# Altium schematic symbol library Hardware.SchLib: 40 symbols
Pins are listed as number, name and electrical type; pins without a type are passive.

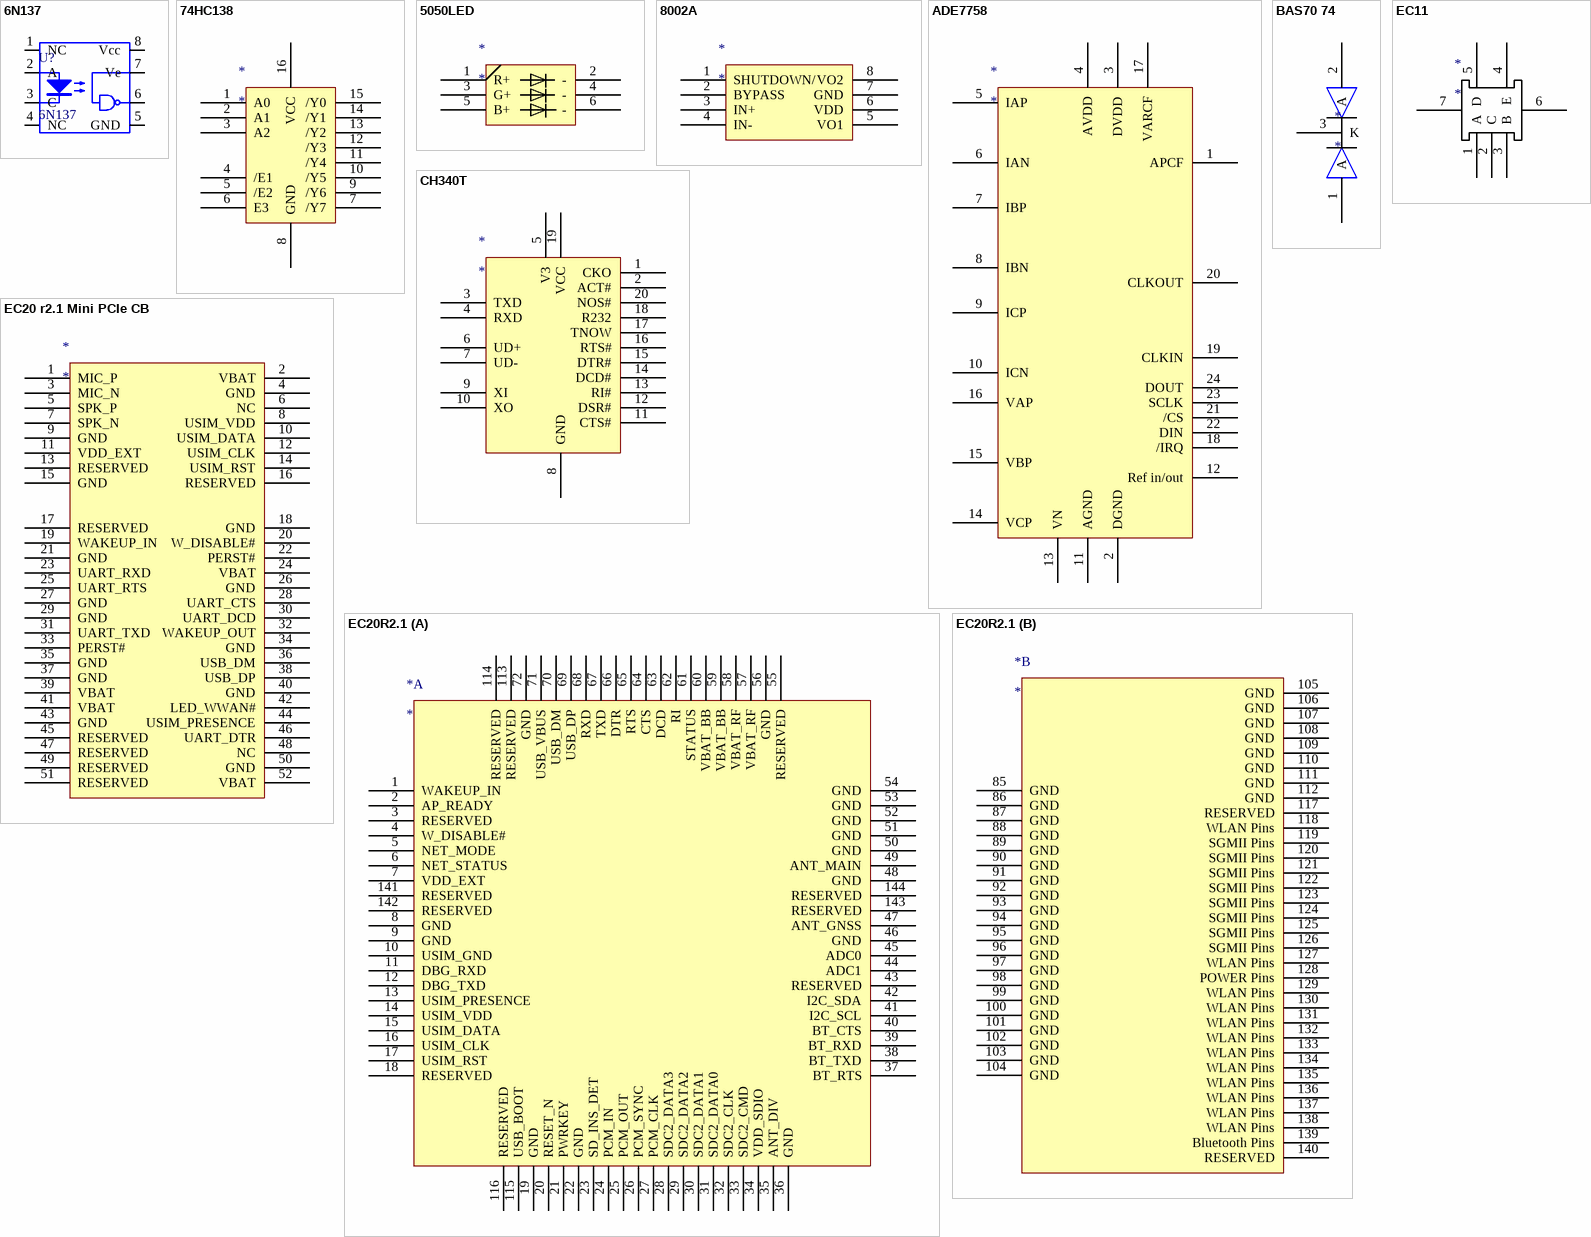
[diagram p0: symbols 6N137 to EC20R2.1]

## 6N137
designator U?
footprint PC817C-SOP4
pins: 1 NC, 2 A, 3 C, 4 NC, 5 GND, 6 Vo, 7 Ve, 8 Vcc

## 74HC138
designator *
pins: 1 A0, 2 A1, 3 A2, 4 /E1, 5 /E2, 6 E3, 7 /Y7, 8 GND, 9 /Y6, 10 /Y5, 11 /Y4, 12 /Y3, 13 /Y2, 14 /Y1, 15 /Y0, 16 VCC

## 5050LED
designator *
pins: 1 R+, 2 -, 3 G+, 4 -, 5 B+, 6 -

## 8002A
designator *
pins: 1 SHUTDOWN/, 2 BYPASS, 3 IN+, 4 IN-, 5 VO1, 6 VDD, 7 GND, 8 VO2

## ADE7758
designator *
pins: 1 APCF, 2 DGND, 3 DVDD, 4 AVDD, 5 IAP, 6 IAN, 7 IBP, 8 IBN, 9 ICP, 10 ICN, 11 AGND, 12 Ref in/out, 13 VN, 14 VCP, 15 VBP, 16 VAP, 17 VARCF, 18 /IRQ, 19 CLKIN, 20 CLKOUT, 21 /CS, 22 DIN, 23 SCLK, 24 DOUT

## BAS70 74
designator *
pins: 1 A, 2 A, 3 K

## CH340T
designator *
pins: 1 CKO, 2 ACT#, 3 TXD, 4 RXD, 5 V3, 6 UD+, 7 UD-, 8 GND, 9 XI, 10 XO, 11 CTS#, 12 DSR#, 13 RI#, 14 DCD#, 15 DTR#, 16 RTS#, 17 TNOW, 18 R232, 19 VCC, 20 NOS#

## EC11
designator *
pins: 1 A, 2 C, 3 B, 4 E, 5 D, 6, 7

## EC20 r2.1 Mini PCIe CB
designator *
pins: 1 MIC_P, 2 VBAT, 3 MIC_N, 4 GND, 5 SPK_P, 6 NC, 7 SPK_N, 8 USIM_VDD, 9 GND, 10 USIM_DATA, 11 VDD_EXT, 12 USIM_CLK, 13 RESERVED, 14 USIM_RST, 15 GND, 16 RESERVED, 17 RESERVED, 18 GND, 19 WAKEUP_IN, 20 W_DISABLE#, 21 GND, 22 PERST#, 23 UART_RXD, 24 VBAT, 25 UART_RTS, 26 GND, 27 GND, 28 UART_CTS, 29 GND, 30 UART_DCD, 31 UART_TXD, 32 WAKEUP_OUT, 33 PERST#, 34 GND, 35 GND, 36 USB_DM, 37 GND, 38 USB_DP, 39 VBAT, 40 GND, 41 VBAT, 42 LED_WWAN#, 43 GND, 44 USIM_PRESENCE, 45 RESERVED, 46 UART_DTR, 47 RESERVED, 48 NC, 49 RESERVED, 50 GND, 51 RESERVED, 52 VBAT

## EC20R2.1
designator *
part A pins: 1 WAKEUP_IN (power), 2 AP_READY (power), 3 RESERVED (power), 4 W_DISABLE# (power), 5 NET_MODE (power), 6 NET_STATUS (power), 7 VDD_EXT (power), 8 GND (power), 9 GND (power), 10 USIM_GND (power), 11 DBG_RXD (power), 12 DBG_TXD (power), 13 USIM_PRESENCE (power), 14 USIM_VDD (power), 15 USIM_DATA (power), 16 USIM_CLK (power), 17 USIM_RST (power), 18 RESERVED (power), 19 GND (power), 20 RESET_N (power), 21 PWRKEY (power), 22 GND (power), 23 SD_INS_DET (power), 24 PCM_IN (power), 25 PCM_OUT (power), 26 PCM_SYNC (power), 27 PCM_CLK (power), 28 SDC2_DATA3 (power), 29 SDC2_DATA2 (power), 30 SDC2_DATA1 (power), 31 SDC2_DATA0 (power), 32 SDC2_CLK (power), 33 SDC2_CMD (power), 34 VDD_SDIO (power), 35 ANT_DIV (power), 36 GND (power), 37 BT_RTS (power), 38 BT_TXD (power), 39 BT_RXD (power), 40 BT_CTS (power), 41 I2C_SCL (power), 42 I2C_SDA (power), 43 RESERVED (power), 44 ADC1 (power), 45 ADC0 (power), 46 GND (power), 47 ANT_GNSS (power), 48 GND (power), 49 ANT_MAIN (power), 50 GND (power), 51 GND (power), 52 GND (power), 53 GND (power), 54 GND (power), 55 RESERVED (power), 56 GND (power), 57 VBAT_RF (power), 58 VBAT_RF (power), 59 VBAT_BB (power), 60 VBAT_BB (power), 61 STATUS (power), 62 RI (power), 63 DCD (power), 64 CTS (power), 65 RTS (power), 66 DTR (power), 67 TXD (power), 68 RXD (power), 69 USB_DP (power), 70 USB_DM (power), 71 USB_VBUS (power), 72 GND (power), 113 RESERVED (power), 114 RESERVED (power), 115 USB_BOOT (power), 116 RESERVED (power), 141 RESERVED (power), 142 RESERVED (power), 143 RESERVED (power), 144 RESERVED (power)
part B pins: 85 GND (power), 86 GND (power), 87 GND (power), 88 GND (power), 89 GND (power), 90 GND (power), 91 GND (power), 92 GND (power), 93 GND (power), 94 GND (power), 95 GND (power), 96 GND (power), 97 GND (power), 98 GND (power), 99 GND (power), 100 GND (power), 101 GND (power), 102 GND (power), 103 GND (power), 104 GND (power), 105 GND (power), 106 GND (power), 107 GND (power), 108 GND (power), 109 GND (power), 110 GND (power), 111 GND (power), 112 GND (power), 117 RESERVED (power), 118 WLAN Pins (power), 119 SGMII Pins (power), 120 SGMII Pins (power), 121 SGMII Pins (power), 122 SGMII Pins (power), 123 SGMII Pins (power), 124 SGMII Pins (power), 125 SGMII Pins (power), 126 SGMII Pins (power), 127 WLAN Pins (power), 128 POWER Pins (power), 129 WLAN Pins (power), 130 WLAN Pins (power), 131 WLAN Pins (power), 132 WLAN Pins (power), 133 WLAN Pins (power), 134 WLAN Pins (power), 135 WLAN Pins (power), 136 WLAN Pins (power), 137 WLAN Pins (power), 138 WLAN Pins (power), 139 Bluetooth Pins (power), 140 RESERVED (power)

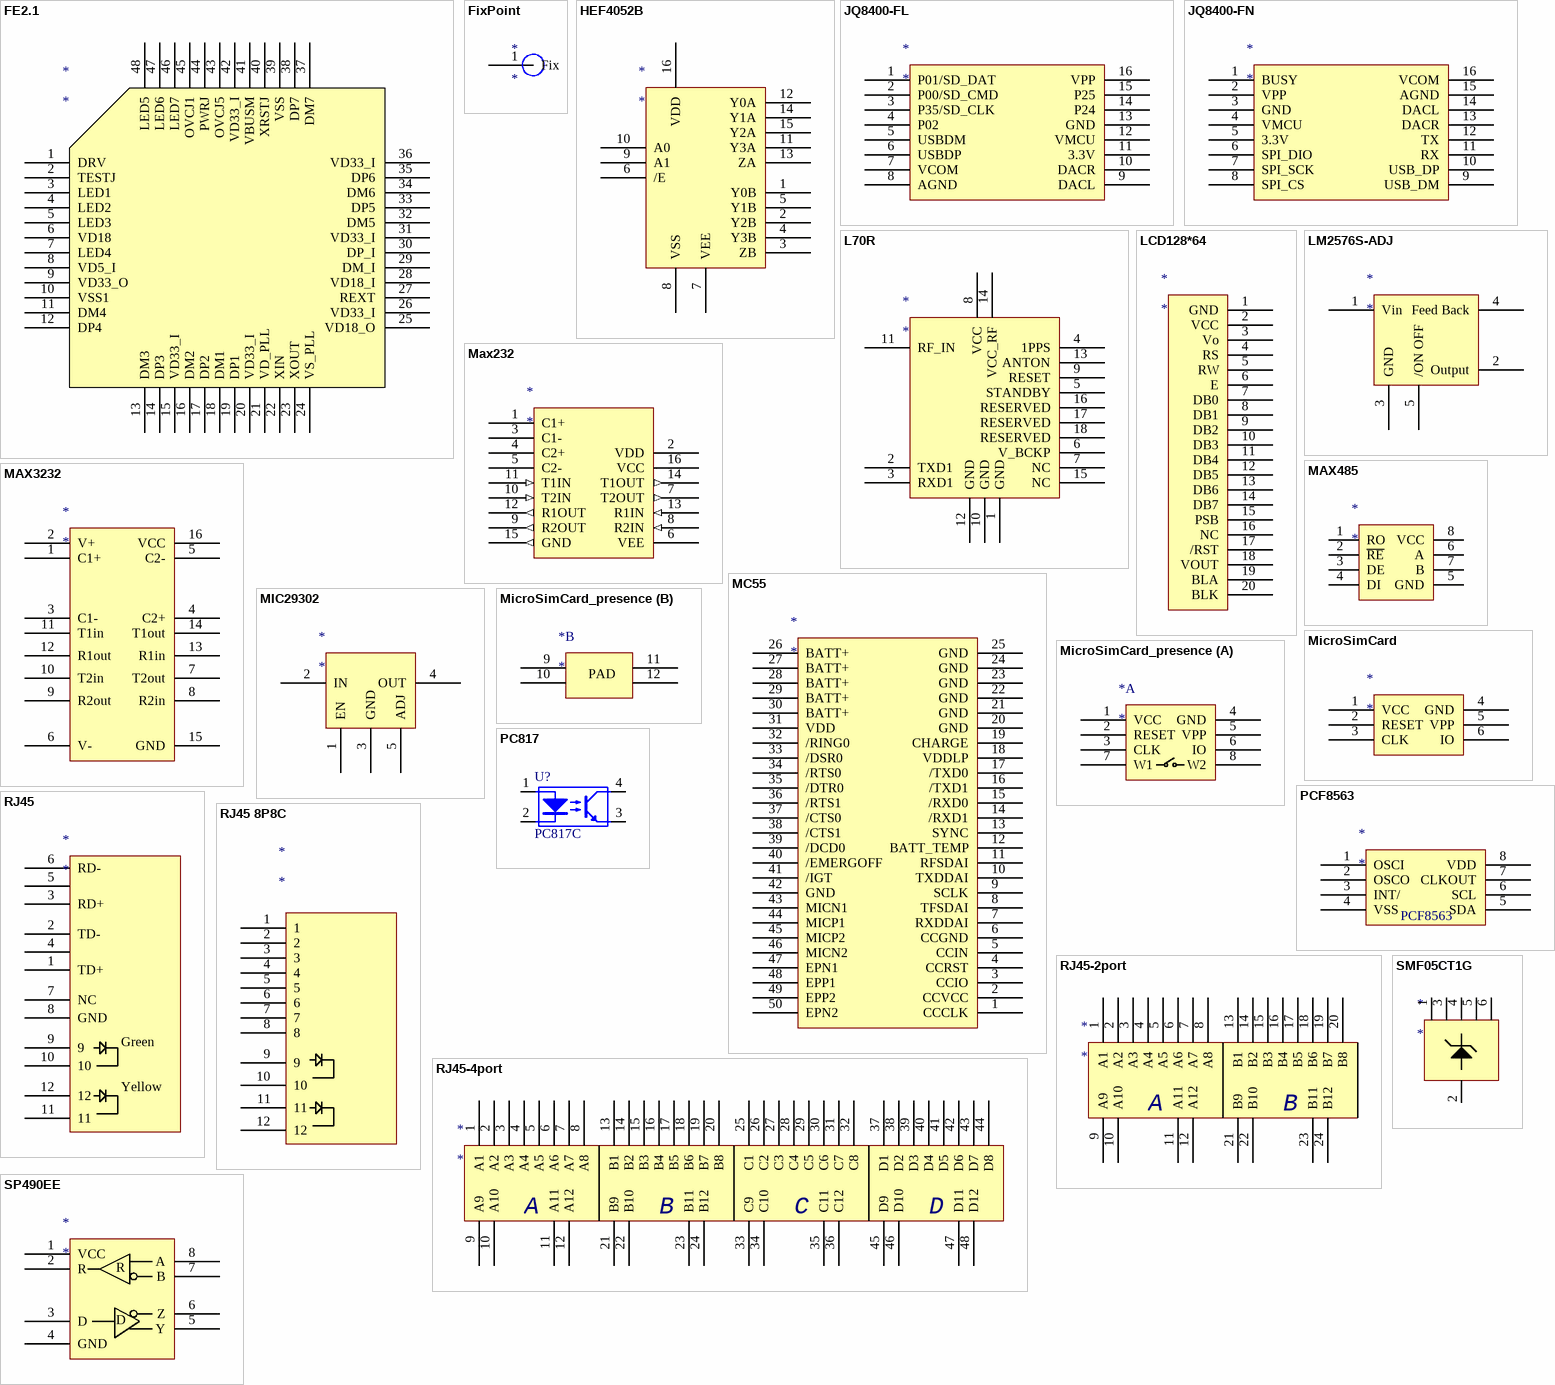
[diagram p1: symbols FE2.1 to SP490EE]

## FE2.1
designator *
pins: 1 DRV, 2 TESTJ, 3 LED1, 4 LED2, 5 LED3, 6 VD18, 7 LED4, 8 VD5_I, 9 VD33_O, 10 VSS1, 11 DM4, 12 DP4, 13 DM3, 14 DP3, 15 VD33_I, 16 DM2, 17 DP2, 18 DM1, 19 DP1, 20 VD33_I, 21 VD_PLL, 22 XIN, 23 XOUT, 24 VS_PLL, 25 VD18_O, 26 VD33_I, 27 REXT, 28 VD18_I, 29 DM_I, 30 DP_I, 31 VD33_I, 32 DM5, 33 DP5, 34 DM6, 35 DP6, 36 VD33_I, 37 DM7, 38 DP7, 39 VSS, 40 XRSTJ, 41 VBUSM, 42 VD33_I, 43 OVCJ5, 44 PWRJ, 45 OVCJ1, 46 LED7, 47 LED6, 48 LED5

## FixPoint
designator *
pins: 1 Fix

## HEF4052B
designator *
pins: 1 Y0B, 2 Y2B, 3 ZB, 4 Y3B, 5 Y1B, 6 /E, 7 VEE, 8 VSS, 9 A1, 10 A0, 11 Y3A, 12 Y0A, 13 ZA, 14 Y1A, 15 Y2A, 16 VDD

## JQ8400-FL
designator *
pins: 1 P01/SD_DAT, 2 P00/SD_CMD, 3 P35/SD_CLK, 4 P02, 5 USBDM, 6 USBDP, 7 VCOM, 8 AGND, 9 DACL, 10 DACR, 11 3.3V, 12 VMCU, 13 GND, 14 P24, 15 P25, 16 VPP

## JQ8400-FN
designator *
pins: 1 BUSY, 2 VPP, 3 GND, 4 VMCU, 5 3.3V, 6 SPI_DIO, 7 SPI_SCK, 8 SPI_CS, 9 USB_DM, 10 USB_DP, 11 RX, 12 TX, 13 DACR, 14 DACL, 15 AGND, 16 VCOM

## L70R
designator *
pins: 1 GND, 2 TXD1, 3 RXD1, 4 1PPS, 5 STANDBY, 6 V_BCKP, 7 NC, 8 VCC, 9 RESET, 10 GND, 11 RF_IN, 12 GND, 13 ANTON, 14 VCC_RF, 15 NC, 16 RESERVED, 17 RESERVED, 18 RESERVED

## LCD128*64
designator *
pins: 1 GND, 2 VCC, 3 Vo, 4 RS, 5 RW, 6 E, 7 DB0, 8 DB1, 9 DB2, 10 DB3, 11 DB4, 12 DB5, 13 DB6, 14 DB7, 15 PSB, 16 NC, 17 /RST, 18 VOUT, 19 BLA, 20 BLK

## LM2576S-ADJ
designator *
pins: 1 Vin, 2 Output, 3 GND, 4 Feed Back, 5 /ON OFF

## Max232
designator *
pins: 1 C1+, 2 VDD, 3 C1-, 4 C2+, 5 C2-, 6 VEE, 7 T2OUT (out), 8 R2IN (in), 9 R2OUT (out), 10 T2IN (in), 11 T1IN (in), 12 R1OUT (out), 13 R1IN (in), 14 T1OUT (out), 15 GND (out), 16 VCC

## MAX485
designator *
pins: 1 RO, 2 ~{RE}, 3 DE, 4 DI, 5 GND, 6 A, 7 B, 8 VCC

## MAX3232
designator *
pins: 1 C1+, 2 V+, 3 C1-, 4 C2+, 5 C2-, 6 V-, 7 T2out, 8 R2in, 9 R2out, 10 T2in, 11 T1in, 12 R1out, 13 R1in, 14 T1out, 15 GND, 16 VCC

## MC55
designator *
pins: 1 CCCLK, 2 CCVCC, 3 CCIO, 4 CCRST, 5 CCIN, 6 CCGND, 7 RXDDAI, 8 TFSDAI, 9 SCLK, 10 TXDDAI, 11 RFSDAI, 12 BATT_TEMP, 13 SYNC, 14 /RXD1, 15 /RXD0, 16 /TXD1, 17 /TXD0, 18 VDDLP, 19 CHARGE, 20 GND, 21 GND, 22 GND, 23 GND, 24 GND, 25 GND, 26 BATT+, 27 BATT+, 28 BATT+, 29 BATT+, 30 BATT+, 31 VDD, 32 /RING0, 33 /DSR0, 34 /RTS0, 35 /DTR0, 36 /RTS1, 37 /CTS0, 38 /CTS1, 39 /DCD0, 40 /EMERGOFF, 41 /IGT, 42 GND, 43 MICN1, 44 MICP1, 45 MICP2, 46 MICN2, 47 EPN1, 48 EPP1, 49 EPP2, 50 EPN2

## MIC29302
designator *
pins: 1 EN, 2 IN, 3 GND, 4 OUT, 5 ADJ

## MicroSimCard
designator *
pins: 1 VCC, 2 RESET, 3 CLK, 4 GND, 5 VPP, 6 IO

## MicroSimCard_presence
designator *
part A pins: 1 VCC, 2 RESET, 3 CLK, 4 GND, 5 VPP, 6 IO, 7 W1, 8 W2
part B pins: 9 (power), 10 (power), 11 (power), 12 (power)
part B text: PAD

## PC817
designator U?, comment PC817C
footprint PC817C-SOP4
pins: 1 LED Anode, 2 LED Cathode, 3 Emitter, 4 Collector

## PCF8563
designator *
pins: 1 OSCI, 2 OSCO, 3 INT/, 4 VSS, 5 SDA, 6 SCL, 7 CLKOUT, 8 VDD

## RJ45
designator *
pins: 1 TD+, 2 TD-, 3 RD+, 4, 5, 6 RD-, 7 NC, 8 GND, 9, 10, 11, 12
text: Green; Yellow

## RJ45 8P8C
designator *
pins: 1, 2, 3, 4, 5, 6, 7, 8, 9, 10, 11, 12

## RJ45-2port
designator *
pins: 1 A1, 2 A2, 3 A3, 4 A4, 5 A5, 6 A6, 7 A7, 8 A8, 9 A9, 10 A10, 11 A11, 12 A12, 13 B1, 14 B2, 15 B3, 16 B4, 17 B5, 18 B6, 19 B7, 20 B8, 21 B9, 22 B10, 23 B11, 24 B12
text: A; B

## RJ45-4port
designator *
pins: 1 A1, 2 A2, 3 A3, 4 A4, 5 A5, 6 A6, 7 A7, 8 A8, 9 A9, 10 A10, 11 A11, 12 A12, 13 B1, 14 B2, 15 B3, 16 B4, 17 B5, 18 B6, 19 B7, 20 B8, 21 B9, 22 B10, 23 B11, 24 B12, 25 C1, 26 C2, 27 C3, 28 C4, 29 C5, 30 C6, 31 C7, 32 C8, 33 C9, 34 C10, 35 C11, 36 C12, 37 D1, 38 D2, 39 D3, 40 D4, 41 D5, 42 D6, 43 D7, 44 D8, 45 D9, 46 D10, 47 D11, 48 D12
text: A; B; C; D

## SMF05CT1G
designator *
pins: 1, 2, 3, 4, 5, 6

## SP490EE
designator *
pins: 1 VCC, 2 R, 3 D, 4 GND, 5 Y, 6 Z, 7 B, 8 A

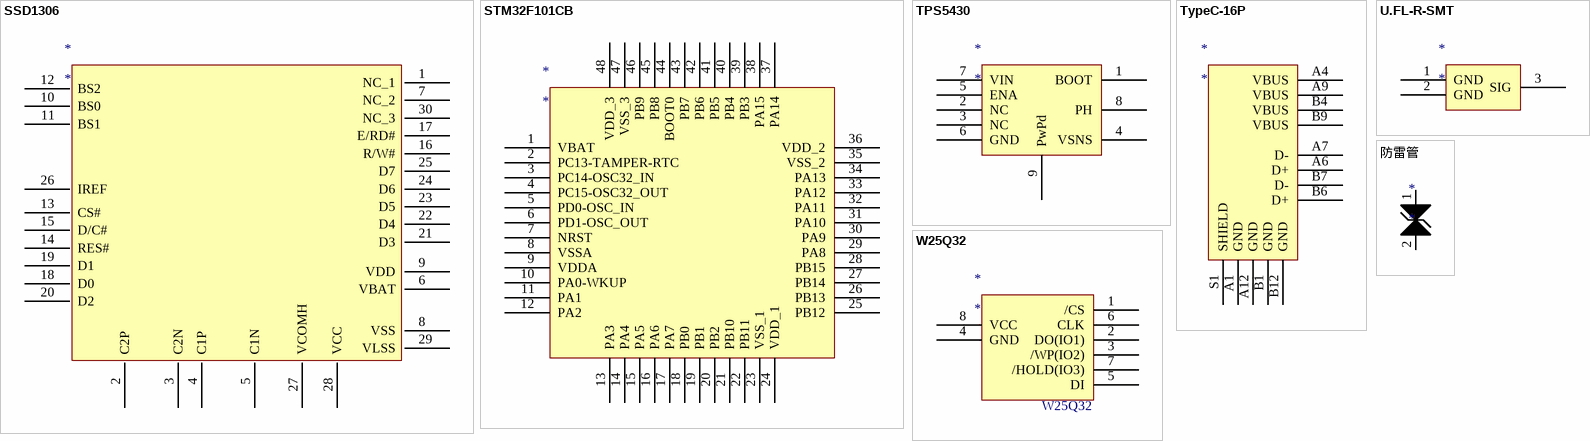
[diagram p2: symbols SSD1306 to 防雷管]

## SSD1306
designator *
pins: 1 NC_1, 2 C2P, 3 C2N, 4 C1P, 5 C1N, 6 VBAT, 7 NC_2, 8 VSS, 9 VDD, 10 BS0, 11 BS1, 12 BS2, 13 CS#, 14 RES#, 15 D/C#, 16 R/W#, 17 E/RD#, 18 D0, 19 D1, 20 D2, 21 D3, 22 D4, 23 D5, 24 D6, 25 D7, 26 IREF, 27 VCOMH, 28 VCC, 29 VLSS, 30 NC_3

## STM32F101CB
designator *
pins: 1 VBAT, 2 PC13-TAMPER-RTC, 3 PC14-OSC32_IN, 4 PC15-OSC32_OUT, 5 PD0-OSC_IN, 6 PD1-OSC_OUT, 7 NRST, 8 VSSA, 9 VDDA, 10 PA0-WKUP, 11 PA1, 12 PA2, 13 PA3, 14 PA4, 15 PA5, 16 PA6, 17 PA7, 18 PB0, 19 PB1, 20 PB2, 21 PB10, 22 PB11, 23 VSS_1, 24 VDD_1, 25 PB12, 26 PB13, 27 PB14, 28 PB15, 29 PA8, 30 PA9, 31 PA10, 32 PA11, 33 PA12, 34 PA13, 35 VSS_2, 36 VDD_2, 37 PA14, 38 PA15, 39 PB3, 40 PB4, 41 PB5, 42 PB6, 43 PB7, 44 BOOT0, 45 PB8, 46 PB9, 47 VSS_3, 48 VDD_3

## TPS5430
designator *
pins: 1 BOOT, 2 NC, 3 NC, 4 VSNS, 5 ENA, 6 GND, 7 VIN, 8 PH, 9 PwPd

## TypeC-16P
designator *
pins: A1 GND, A4 VBUS, A6 D+, A7 D-, A9 VBUS, A12 GND, B1 GND, B4 VBUS, B6 D+, B7 D-, B9 VBUS, B12 GND, S1 SHIELD

## U.FL-R-SMT
designator *
pins: 1 GND, 2 GND, 3 SIG

## W25Q32
designator *
pins: 1 /CS, 2 DO(IO1), 3 /WP(IO2), 4 GND, 5 DI, 6 CLK, 7 /HOLD(IO3), 8 VCC

## 防雷管
designator *
pins: 1, 2